# Altium footprint library TO-263.PcbLib: 1 footprints
Each footprint in its own frame and in the unit in brackets; x right, y up, seen from the top. Pads: shape width x height; smd on the part's side, far side on the other; paste and mask are expansions set on the pad; w line width, h text height; cw(c..) or ccw(c..) is an arc to the next point about the centre after c.
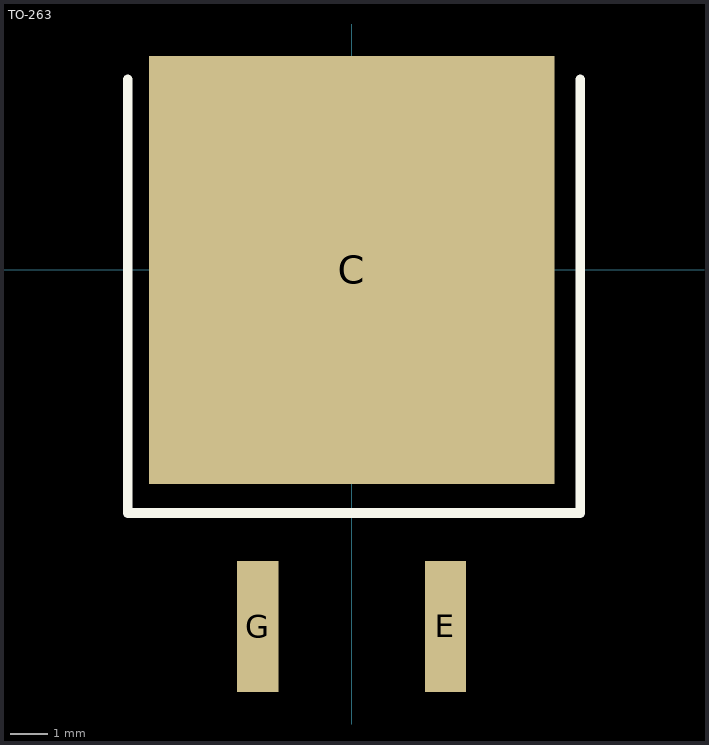
[diagram p0: the footprint, top view; thin cyan lines are the x and y axes]

## TO-263 [mm]
pads (3):
  rect 10.8x11.4 smd: C(0,0)
  rect 1.1x3.5 smd: E(2.5,-9.5) G(-2.5,-9.5)
Top Overlay:
  lines w0.254: -5.969,5.08 -5.969,-6.477 6.096,-6.477 6.096,5.08